# EAGLE library part ATMEGA8U2 (library adjacent-reality)
Atmel 32-pin 8-bit Microcontroller with 8/16/32K Bystes of ISP Flash and USB Controller. ATmega8U2, ATmega16U2, and ATmega32U2 CC BY SA SparkFun
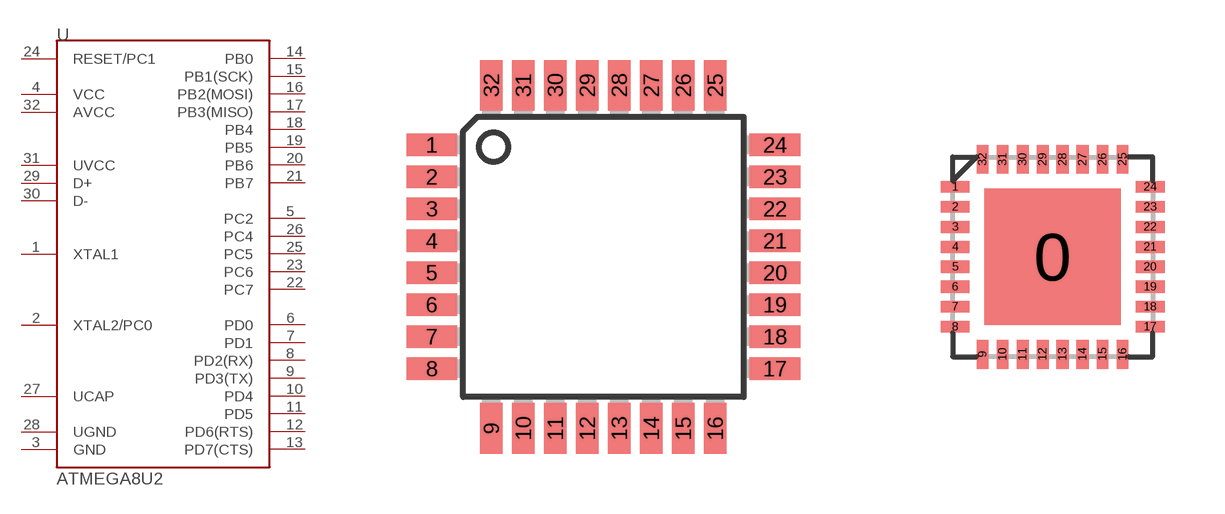
[diagram p14: symbol with the pads of TQFP32-08; footprints TQFP32-08, QFN32]

Designator prefix U

## ATMEGA8U2AU  [TQFP32-08]
1  XTAL1
2  XTAL2/PC0
3  GND
4  VCC
5  PC2
6  PD0
7  PD1
8  PD2(RX)
9  PD3(TX)
10  PD4
11  PD5
12  PD6(RTS)
13  PD7(CTS)
14  PB0
15  PB1(SCK)
16  PB2(MOSI)
17  PB3(MISO)
18  PB4
19  PB5
20  PB6
21  PB7
22  PC7
23  PC6
24  RESET/PC1
25  PC5
26  PC4
27  UCAP
28  UGND
29  D+
30  D-
31  UVCC
32  AVCC

## ATMEGA8U2MU  [QFN32]
Pads as for TQFP32-08

## Footprint TQFP32-08 (pad centres in mm)
Thin Plasic Quad Flat Package Grid 0.8 mm
smd 1.27 x 0.559: 1 -4.293,2.8; 2 -4.293,2; 3 -4.293,1.2; 4 -4.293,0.4; 5 -4.293,-0.4; 6 -4.293,-1.2; 7 -4.293,-2; 8 -4.293,-2.8; 17 4.293,-2.8; 18 4.293,-2; 19 4.293,-1.2; 20 4.293,-0.4; 21 4.293,0.4; 22 4.293,1.2; 23 4.293,2; 24 4.293,2.8
smd 0.559 x 1.27: 9 -2.8,-4.293; 10 -2,-4.293; 11 -1.2,-4.293; 12 -0.4,-4.293; 13 0.4,-4.293; 14 1.2,-4.293; 15 2,-4.293; 16 2.8,-4.293; 25 2.8,4.293; 26 2,4.293; 27 1.2,4.293; 28 0.4,4.293; 29 -0.4,4.293; 30 -1.2,4.293; 31 -2,4.293; 32 -2.8,4.293

## Footprint QFN32 (pad centres in mm)
smd 3.4 x 3.4: 0 0,0
smd 0.725 x 0.3: 1 -2.438,1.75; 2 -2.438,1.25; 3 -2.438,0.75; 4 -2.438,0.25; 5 -2.438,-0.25; 6 -2.438,-0.75; 7 -2.438,-1.25; 8 -2.438,-1.75; 17 2.438,-1.75; 18 2.438,-1.25; 19 2.438,-0.75; 20 2.438,-0.25; 21 2.438,0.25; 22 2.438,0.75; 23 2.438,1.25; 24 2.438,1.75
smd 0.3 x 0.725: 9 -1.75,-2.438; 10 -1.25,-2.438; 11 -0.75,-2.438; 12 -0.25,-2.438; 13 0.25,-2.438; 14 0.75,-2.438; 15 1.25,-2.438; 16 1.75,-2.438; 25 1.75,2.438; 26 1.25,2.438; 27 0.75,2.438; 28 0.25,2.438; 29 -0.25,2.438; 30 -0.75,2.438; 31 -1.25,2.438; 32 -1.75,2.438